# Altium schematic symbol library 36900000.SchLib: 1 symbol
Pins are listed as number, name and electrical type; pins without a type are passive.

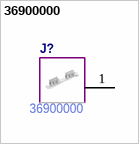
[diagram p0: symbol 36900000]

## 36900000
designator J?  Manufacturer Part Number: 36900000  (hidden comment: *)
pins: 1 GND